# EAGLE library part STM32F407VG (library Shohei)
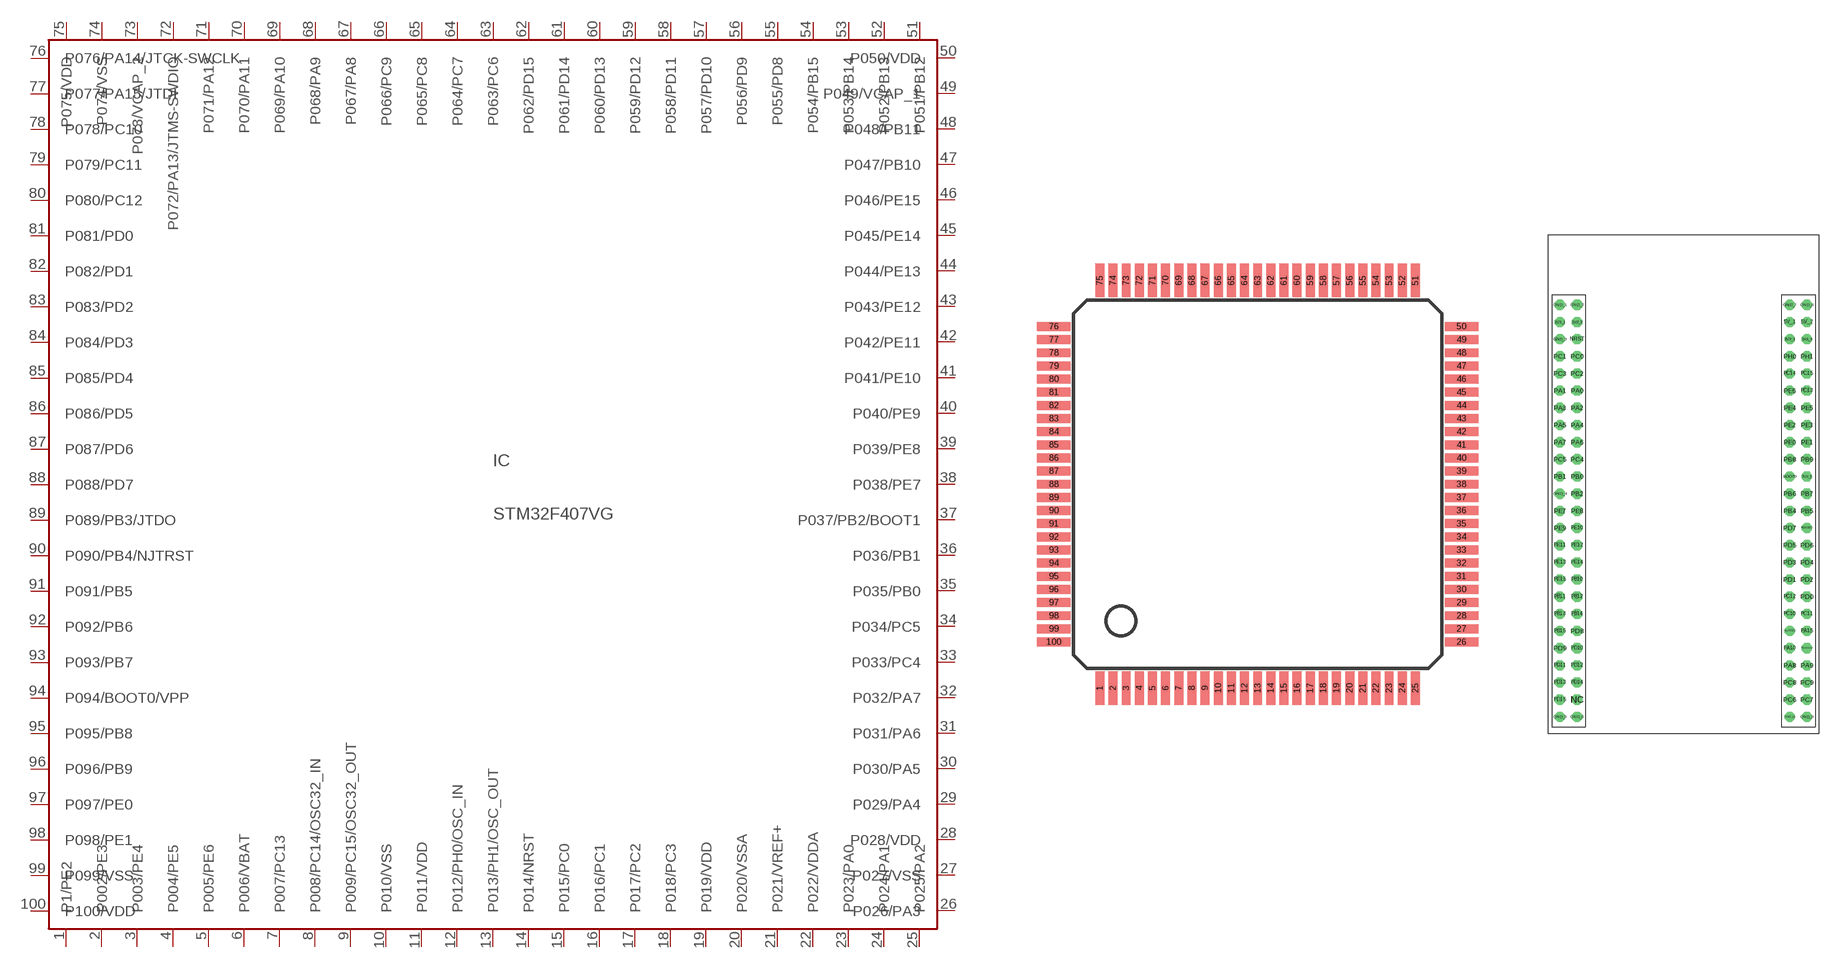
[diagram p1: symbol with the pads of LQFP100; footprints LQFP100, MY_F4_DISCOVERY]

Designator prefix IC

## STM32F407VGIC  [LQFP100]
1  P1/PE2
2  P002/PE3
3  P003/PE4
4  P004/PE5
5  P005/PE6
6  P006/VBAT
7  P007/PC13
8  P008/PC14/OSC32_IN
9  P009/PC15/OSC32_OUT
10  P010/VSS
11  P011/VDD
12  P012/PH0/OSC_IN
13  P013/PH1/OSC_OUT
14  P014/NRST
15  P015/PC0
16  P016/PC1
17  P017/PC2
18  P018/PC3
19  P019/VDD
20  P020/VSSA
21  P021/VREF+
22  P022/VDDA
23  P023/PA0
24  P024/PA1
25  P025/PA2
26  P026/PA3
27  P027/VSS
28  P028/VDD
29  P029/PA4
30  P030/PA5
31  P031/PA6
32  P032/PA7
33  P033/PC4
34  P034/PC5
35  P035/PB0
36  P036/PB1
37  P037/PB2/BOOT1
38  P038/PE7
39  P039/PE8
40  P040/PE9
41  P041/PE10
42  P042/PE11
43  P043/PE12
44  P044/PE13
45  P045/PE14
46  P046/PE15
47  P047/PB10
48  P048/PB11
49  P049/VCAP_1
50  P050/VDD
51  P051/PB12
52  P052/PB13
53  P053/PB14
54  P054/PB15
55  P055/PD8
56  P056/PD9
57  P057/PD10
58  P058/PD11
59  P059/PD12
60  P060/PD13
61  P061/PD14
62  P062/PD15
63  P063/PC6
64  P064/PC7
65  P065/PC8
66  P066/PC9
67  P067/PA8
68  P068/PA9
69  P069/PA10
70  P070/PA11
71  P071/PA12
72  P072/PA13/JTMS-SWDIO
73  P073/VCAP_2
74  P074/VSS
75  P075/VDD
76  P076/PA14/JTCK-SWCLK
77  P077/PA15/JTDI
78  P078/PC10
79  P079/PC11
80  P080/PC12
81  P081/PD0
82  P082/PD1
83  P083/PD2
84  P084/PD3
85  P085/PD4
86  P086/PD5
87  P087/PD6
88  P088/PD7
89  P089/PB3/JTDO
90  P090/PB4/NJTRST
91  P091/PB5
92  P092/PB6
93  P093/PB7
94  P094/BOOT0/VPP
95  P095/PB8
96  P096/PB9
97  P097/PE0
98  P098/PE1
99  P099/VSS
100  P100/VDD

## STM32F407VG  [MY_F4_DISCOVERY]

## Footprint LQFP100 (pad centres in mm)
smd 0.34 x 1.27: 1 -6,-7.75; 2 -5.5,-7.75; 3 -5,-7.75; 4 -4.5,-7.75; 5 -4,-7.75; 6 -3.5,-7.75; 7 -3,-7.75; 8 -2.5,-7.75; 9 -2,-7.75; 10 -1.5,-7.75; 11 -1,-7.75; 12 -0.5,-7.75; 13 0,-7.75; 14 0.5,-7.75; 15 1,-7.75; 16 1.5,-7.75; 17 2,-7.75; 18 2.5,-7.75; 19 3,-7.75; 20 3.5,-7.75; 21 4,-7.75; 22 4.5,-7.75; 23 5,-7.75; 24 5.5,-7.75; 25 6,-7.75; 51 6,7.75; 52 5.5,7.75; 53 5,7.75; 54 4.5,7.75; 55 4,7.75; 56 3.5,7.75; 57 3,7.75; 58 2.5,7.75; 59 2,7.75; 60 1.5,7.75; 61 1,7.75; 62 0.5,7.75; 63 0,7.75; 64 -0.5,7.75; 65 -1,7.75; 66 -1.5,7.75; 67 -2,7.75; 68 -2.5,7.75; 69 -3,7.75; 70 -3.5,7.75; 71 -4,7.75; 72 -4.5,7.75; 73 -5,7.75; 74 -5.5,7.75; 75 -6,7.75
smd 1.27 x 0.34: 26 7.75,-6; 27 7.75,-5.5; 28 7.75,-5; 29 7.75,-4.5; 30 7.75,-4; 31 7.75,-3.5; 32 7.75,-3; 33 7.75,-2.5; 34 7.75,-2; 35 7.75,-1.5; 36 7.75,-1; 37 7.75,-0.5; 38 7.75,0; 39 7.75,0.5; 40 7.75,1; 41 7.75,1.5; 42 7.75,2; 43 7.75,2.5; 44 7.75,3; 45 7.75,3.5; 46 7.75,4; 47 7.75,4.5; 48 7.75,5; 49 7.75,5.5; 50 7.75,6; 76 -7.75,6; 77 -7.75,5.5; 78 -7.75,5; 79 -7.75,4.5; 80 -7.75,4; 81 -7.75,3.5; 82 -7.75,3; 83 -7.75,2.5; 84 -7.75,2; 85 -7.75,1.5; 86 -7.75,1; 87 -7.75,0.5; 88 -7.75,0; 89 -7.75,-0.5; 90 -7.75,-1; 91 -7.75,-1.5; 92 -7.75,-2; 93 -7.75,-2.5; 94 -7.75,-3; 95 -7.75,-3.5; 96 -7.75,-4; 97 -7.75,-4.5; 98 -7.75,-5; 99 -7.75,-5.5; 100 -7.75,-6

## Footprint MY_F4_DISCOVERY (pad centres in mm)
drill 1 pad 1.473 octagon: 3V3_1 -18.27,27.94; 3V3_2 -15.73,27.94; 3V3_3 15.73,25.4; 3V3_4 18.27,25.4; 3V3_5 18.27,5.08; 5V_1 15.73,27.94; 5V_2 18.27,27.94; BOOT0 15.73,5.08; GND_1 -18.27,30.48; GND_2 -15.73,30.48; GND_3 -18.27,25.4; GND_4 -18.27,2.54; GND_5 -18.27,-30.48; GND_6 -15.73,-30.48; GND_7 15.73,30.48; GND_8 18.27,30.48; GND_9 18.27,-30.48; GND_10 15.73,-30.48; NC -15.73,-27.94; NRST -15.73,25.4; PA0 -15.73,17.78; PA1 -18.27,17.78; PA2 -15.73,15.24; PA3 -18.27,15.24; PA4 -15.73,12.7; PA5 -18.27,12.7; PA6 -15.73,10.16; PA7 -18.27,10.16; PA8 15.73,-22.86; PA9 18.27,-22.86; PA10 15.73,-20.32; PA13/SWDIO 18.27,-20.32; PA14/SWCLK 15.73,-17.78; PA15 18.27,-17.78; PB0 -15.73,5.08; PB1 -18.27,5.08; PB2 -15.73,2.54; PB3/SWO 18.27,-2.54; PB4 15.73,0; PB5 18.27,0; PB6 15.73,2.54; PB7 18.27,2.54; PB8 15.73,7.62; PB9 18.27,7.62; PB10 -15.73,-10.16; PB11 -18.27,-12.7; PB12 -15.73,-12.7; PB13 -18.27,-15.24; PB14 -15.73,-15.24; PB15 -18.27,-17.78; PC0 -15.73,22.86; PC1 -18.27,22.86; PC2 -15.73,20.32; PC3 -18.27,20.32; PC4 -15.73,7.62; PC5 -18.27,7.62; PC6 15.73,-27.94; PC7 18.27,-27.94; PC8 15.73,-25.4; PC9 18.27,-25.4; PC10 15.73,-15.24; PC11 18.27,-15.24; PC12 15.73,-12.7; PC13 18.27,17.78; PC14 15.73,20.32; PC15 18.27,20.32; PD0 18.27,-12.7; PD1 15.73,-10.16; PD2 18.27,-10.16; PD3 15.73,-7.62; PD4 18.27,-7.62; PD5 15.73,-5.08; PD6 18.27,-5.08; PD7 15.73,-2.54; PD8 -15.73,-17.78; PD9 -18.27,-20.32; PD10 -15.73,-20.32; PD11 -18.27,-22.86; PD12 -15.73,-22.86; PD13 -18.27,-25.4; PD14 -15.73,-25.4; PD15 -18.27,-27.94; PE0 15.73,10.16; PE1 18.27,10.16; PE2 15.73,12.7; PE3 18.27,12.7; PE4 15.73,15.24; PE5 18.27,15.24; PE6 15.73,17.78; PE7 -18.27,0; PE8 -15.73,0; PE9 -18.27,-2.54; PE10 -15.73,-2.54; PE11 -18.27,-5.08; PE12 -15.73,-5.08; PE13 -18.27,-7.62; PE14 -15.73,-7.62; PE15 -18.27,-10.16; PH0 15.73,22.86; PH1 18.27,22.86